# Altium footprint library My.PcbLib: 42 footprints (part 1 of 3)
Each footprint in its own frame and in the unit in brackets; x right, y up, seen from the top. Pads: shape width x height; smd on the part's side, far side on the other; paste and mask are expansions set on the pad; w line width, h text height; cw(c..) or ccw(c..) is an arc to the next point about the centre after c.
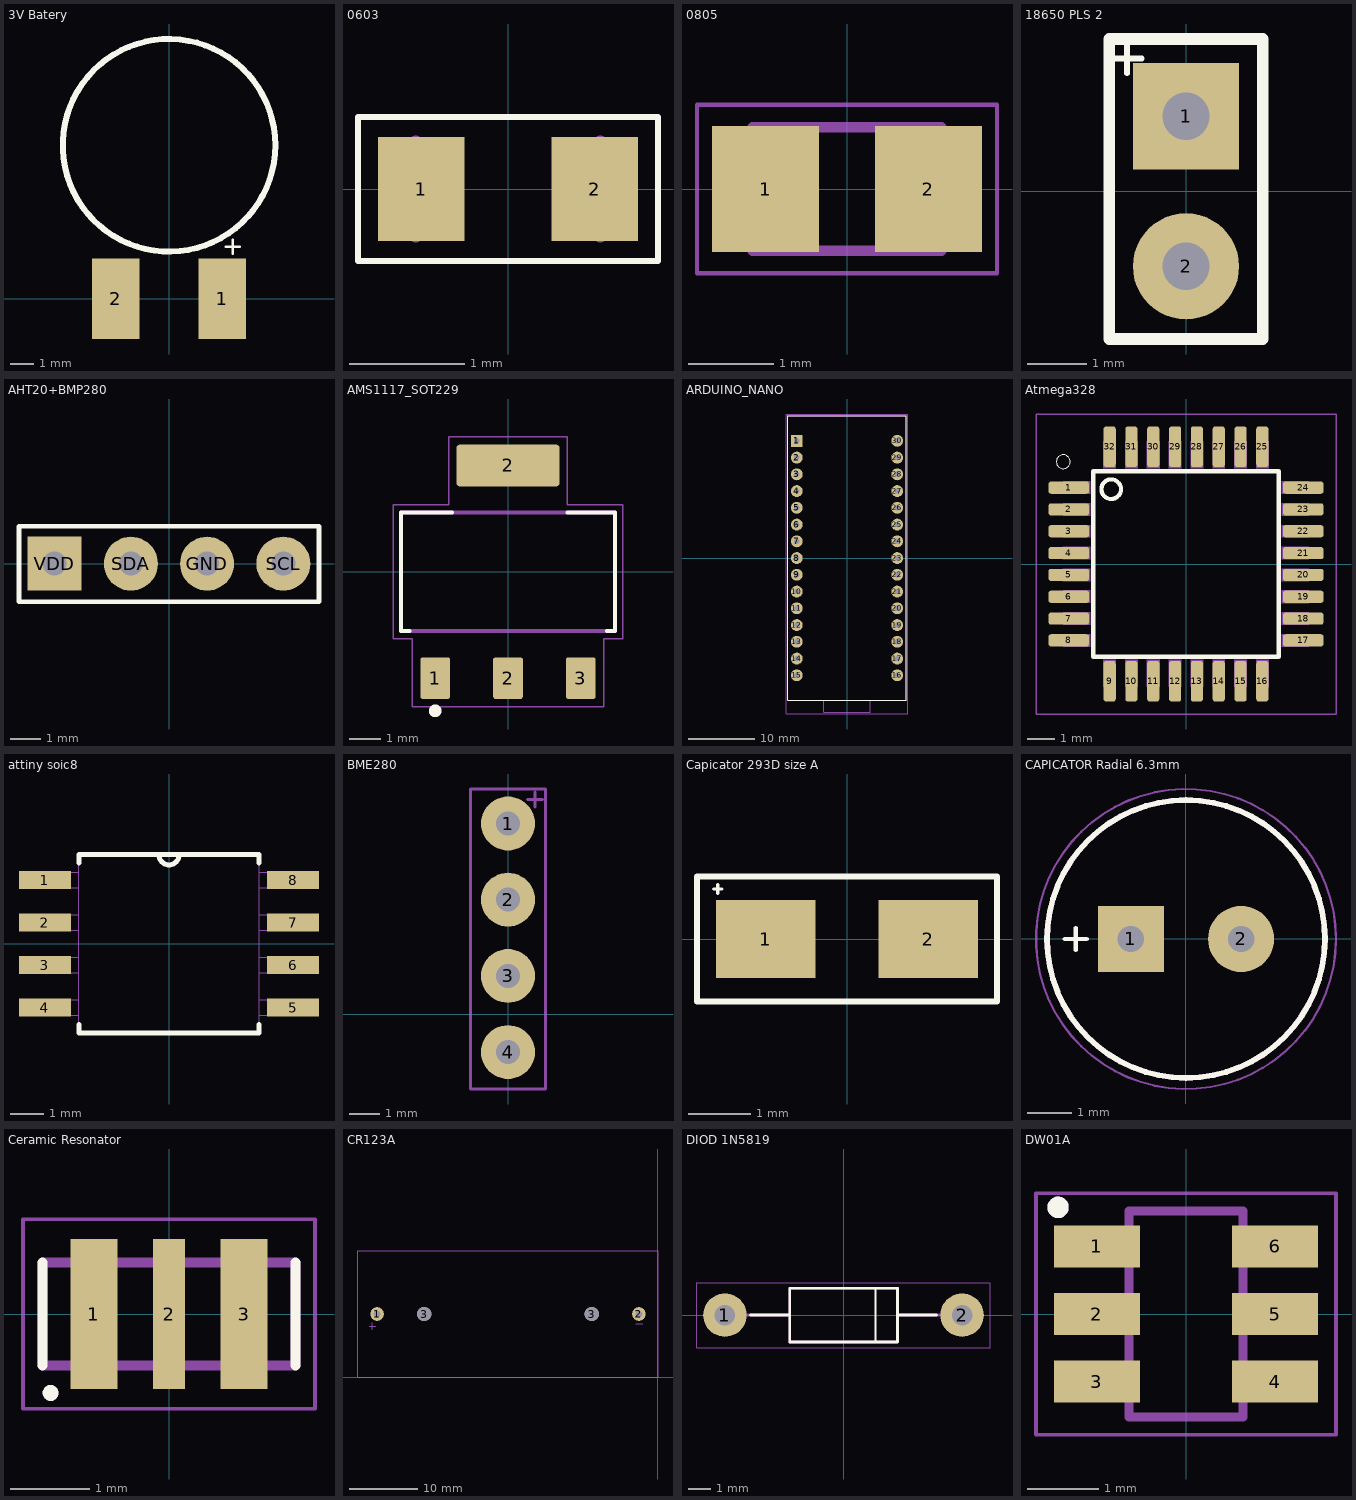
[diagram p0: the footprints below, top view; thin cyan lines are the x and y axes]

## 3V Batery [mm]
pads (2):
  rect 2x3.4 smd: 1(2.25,0) 2(-2.25,0)
Top Overlay:
  circle w0.254: c0,6.5 r4.5
  lines w0.1: 2.4,2.2 3,2.2 2.7,2.2 2.7,1.9 2.7,2.5
3D body: height 1.27, standoff 0, extent -4.488,2.002 4.512,11.002
3D body: height 0.1, standoff 0, extent -3.325,-1.75 -1.175,6.97
3D body: height 1.27, standoff 1.27, extent 1.175,-1.75 3.325,6.97

## 0603 [mm]
height 0.45
pads (2):
  rect 0.75x0.9 smd: 1(-0.75,0) 2(0.75,0)
Top Overlay:
  lines w0.05: -1.3,-0.625 -1.3,0.625 1.3,0.625 1.3,-0.625 -1.3,-0.625
Mechanical 13:
  lines w0.127: -0.8,-0.4 -0.8,0.4 ; 0.8,-0.4 0.8,0.4
3D body "step_temp.STEP": height 0.45, standoff 0, extent -0.8,-0.4 0.8,0.4

## 0805 [mm]
pads (2):
  rect 1.25x1.47 smd: 1(-0.95,0) 2(0.95,0)
Mechanical 13:
  lines w0.127: -1.1,-0.72 1.1,-0.72 1.1,0.72 -1.1,0.72 -1.1,-0.72
Top Courtyard (Mech15):
  lines w0.05: -1.75,-0.983 1.75,-0.983 1.75,0.983 -1.75,0.983 -1.75,-0.983
3D body "step_temp.STEP": height 0.94, standoff 0, extent -1.005,-0.625 1.005,0.625

## 18650 PLS 2 [mm]
pads (2):
  rect 1.8x1.8 hole 0.8: 1(0,1.27)
  round 1.8 hole 0.8: 2(0,-1.27)
Top Overlay:
  lines w0.1: -1.25,2.25 -0.75,2.25 ; -1,2 -1,2.5
  lines w0.2: -1.3,-2.5 1.3,-2.5 1.3,2.58 -1.3,2.58 -1.3,-2.5
3D body "PLS-2_(DS1021_CONNFLY).stp": height 8.7, standoff -3, extent -1.27,-2.54 1.27,2.54

## AHT20+BMP280 [mm]
pads (4):
  round 1.8 hole 0.8: GND(1.27,0) SCL(3.81,0) SDA(-1.27,0)
  rect 1.8x1.8 hole 0.8: VDD(-3.81,0)
Top Overlay:
  lines w0.152: -5,-1.27 -5,1.25 5,1.25 5,-1.27 -5,-1.27
3D body "PLS-2_(DS1021_CONNFLY).stp": height 8.7, standoff -3, extent -5.08,-1.27 0,1.27
3D body "PLS-2_(DS1021_CONNFLY).stp": height 8.7, standoff -3, extent 0,-1.27 5.08,1.27

## AMS1117_SOT229 [mm]
pads (4):
  rrect15% 0.93x1.31 smd: 1(-2.29,-3.345) 2(0,-3.345) 3(2.29,-3.345)
  rrect15% 3.24x1.31 smd: 2(0,3.345)
Top Overlay:
  circle w0.2: c-2.29,-4.373 r0.1
  lines w0.127: -3.1,-1.86 -3.36,-1.86 -3.36,1.86 -1.76,1.86 ; 1.87,1.86 3.36,1.86 3.36,-1.86 3.11,-1.86
Mechanical 13:
  lines w0.127: -3.36,-1.86 3.36,-1.86 3.36,1.86 -3.36,1.86 -3.36,-1.86
Top Courtyard (Mech15):
  lines w0.05: -3.61,-2.11 -3.01,-2.11 -3.01,-4.25 3.01,-4.25 3.01,-2.11 3.61,-2.11 3.61,2.11 1.87,2.11 1.87,4.25 -1.87,4.25 -1.87,2.11 -3.61,2.11 -3.61,-2.11
3D body "step_temp.STEP": height 1.8, standoff 0, extent -3.1,-3.625 3.2,3.375

## ARDUINO_NANO [mm]
pads (30):
  rect 1.8x1.8 hole 0.8: 1(-7.62,17.78)
  round 1.8 hole 0.8: 2(-7.62,15.24) 3(-7.62,12.7) 4(-7.62,10.16) 5(-7.62,7.62) 6(-7.62,5.08) 7(-7.62,2.54) 8(-7.62,0) 9(-7.62,-2.54) 10(-7.62,-5.08) 11(-7.62,-7.62) 12(-7.62,-10.16) 13(-7.62,-12.7) 14(-7.62,-15.24) 15(-7.62,-17.78) 16(7.62,-17.78) 17(7.62,-15.24) 18(7.62,-12.7) 19(7.62,-10.16) 20(7.62,-7.62) 21(7.62,-5.08) 22(7.62,-2.54) 23(7.62,0) 24(7.62,2.54) 25(7.62,5.08) 26(7.62,7.62) 27(7.62,10.16) 28(7.62,12.7) 29(7.62,15.24) 30(7.62,17.78)
Top Overlay:
  lines w0.127: -9,-21.6 -9,21.6 9,21.6 9,-21.6 -9,-21.6
Mechanical 13:
  lines w0.127: -3.5,-21.6 -3.5,-23.4 3.5,-23.4 3.5,-21.6 ; -3.5,-21.6 -9,-21.6 -9,21.6 9,21.6 9,-21.6 3.5,-21.6 ; -3.5,-21.6 3.5,-21.6
Top Courtyard (Mech15):
  lines w0.05: -9.25,-23.65 9.25,-23.65 9.25,21.85 -9.25,21.85 -9.25,-23.65
3D body "step_temp.STEP": height 12.6, standoff -6, extent -9,-23.4 9,21.6

## Atmega328 [mm]
pads (32):
  rrect50% 1.5x0.45 smd: 1(-4.3,2.8) 2(-4.3,2) 3(-4.3,1.2) 4(-4.3,0.4) 5(-4.3,-0.4) 6(-4.3,-1.2) 7(-4.3,-2) 8(-4.3,-2.8) 17(4.3,-2.8) 18(4.3,-2) 19(4.3,-1.2) 20(4.3,-0.4) 21(4.3,0.4) 22(4.3,1.2) 23(4.3,2) 24(4.3,2.8)
  rrect50% 0.45x1.5 smd: 9(-2.8,-4.3) 10(-2,-4.3) 11(-1.2,-4.3) 12(-0.4,-4.3) 13(0.4,-4.3) 14(1.2,-4.3) 15(2,-4.3) 16(2.8,-4.3) 26(2,4.3) 27(1.2,4.3) 28(0.4,4.3) 29(-0.4,4.3) 30(-1.2,4.3) 31(-2,4.3) 32(-2.8,4.3)
  rrect50% 0.45x1.5 smd mask+0.102: 25(2.8,4.3)
Top Overlay:
  circle w0: c-4.5,3.75 r0.254
  circle w0.152: c-2.743,2.743 r0.359
  lines w0.152: -3.4,-3.4 -3.4,3.4 3.4,3.4 3.4,-3.4 -3.4,-3.4
Mechanical 13:
  region: -2.571,3.511 -3.033,3.511 -3.033,4.497 -2.571,4.497
  region: -1.771,3.511 -2.232,3.511 -2.232,4.497 -1.771,4.497
  region: -0.971,3.512 -1.431,3.512 -1.431,4.497 -0.971,4.497
  region: -0.171,3.513 -0.63,3.513 -0.63,4.497 -0.171,4.497
  region: 0.629,3.509 0.172,3.509 0.172,4.497 0.629,4.497
  region: 1.429,3.515 0.974,3.515 0.974,4.497 1.429,4.497
  region: 2.229,3.516 1.777,3.516 1.777,4.497 2.229,4.497
  region: 3.029,3.512 2.576,3.512 2.576,4.497 3.029,4.497
  region: 4.497,2.578 3.515,2.578 3.515,3.029 4.497,3.029
  region: 4.497,1.772 3.508,1.772 3.508,2.229 4.497,2.229
  region: 4.497,0.975 3.517,0.975 3.517,1.429 4.497,1.429
  region: 4.497,0.172 3.51,0.172 3.51,0.629 4.497,0.629
  region: 4.497,-0.63 3.515,-0.63 3.515,-0.171 4.497,-0.171
  region: 4.497,-1.432 3.514,-1.432 3.514,-0.971 4.497,-0.971
  region: 4.497,-2.23 3.508,-2.23 3.508,-1.771 4.497,-1.771
  region: 4.497,-3.035 3.514,-3.035 3.514,-2.571 4.497,-2.571
  region: 3.029,-4.511 2.579,-4.511 2.579,-3.506 3.029,-3.506
  region: 2.229,-4.508 1.776,-4.508 1.776,-3.506 2.229,-3.506
  region: 1.429,-4.501 0.972,-4.501 0.972,-3.506 1.429,-3.506
  region: 0.629,-4.505 0.172,-4.505 0.172,-3.506 0.629,-3.506
  region: -0.171,-4.503 -0.629,-4.503 -0.629,-3.506 -0.171,-3.506
  region: -0.971,-4.505 -1.431,-4.505 -1.431,-3.506 -0.971,-3.506
  region: -1.771,-4.503 -2.232,-4.503 -2.232,-3.506 -1.771,-3.506
  region: -2.571,-4.509 -3.037,-4.509 -3.037,-3.506 -2.571,-3.506
  region: -3.506,-3.036 -4.507,-3.036 -4.507,-2.571 -3.506,-2.571
  region: -3.506,-2.234 -4.508,-2.234 -4.508,-1.771 -3.506,-1.771
  region: -3.506,-1.43 -4.501,-1.43 -4.501,-0.971 -3.506,-0.971
  region: -3.506,-0.631 -4.511,-0.631 -4.511,-0.171 -3.506,-0.171
  region: -3.506,0.172 -4.511,0.172 -4.511,0.629 -3.506,0.629
  region: -3.506,0.972 -4.5,0.972 -4.5,1.429 -3.506,1.429
  region: -3.506,1.775 -4.506,1.775 -4.506,2.229 -3.506,2.229
  region: -3.506,2.574 -4.501,2.574 -4.501,3.029 -3.506,3.029
Top Courtyard (Mech15):
  lines w0.05: -5.5,-5.5 -5.5,5.5 5.5,5.5 5.5,-5.5 -5.5,-5.5
3D body "step_temp.STEP": height 1.2, standoff 0, extent -4.5,-4.5 4.5,4.5

## attiny soic8 [mil]
pads (8):
  rect 61x21 smd: 1(-146,75) 2(-146,25) 3(-146,-25) 4(-146,-75) 5(146,-75) 6(146,-25) 7(146,25) 8(146,75)
Top Overlay:
  lines w6: -106,-95 -106,-105 106,-105 106,-95 ; -106,95 -106,105 -12,105 ; 106,95 106,105 12,105 ; -12,105 ccw(c0,105) 12,105 ; -12,105 ccw(c0,105) 12,105 ; -12,105 12,105
Mechanical 13:
  lines w0: -12,105 ccw(c0,105) 12,105 ; -12,105 ccw(c0,105) 12,105 ; -12,105 12,105 ; -12,105 -106,105 -106,-105 106,-105 106,105 12,105 ; -163,-84 -163,-66 -106,-66 -106,-84 -163,-84 ; -163,-34 -163,-16 -106,-16 -106,-34 -163,-34 ; -163,16 -163,34 -106,34 -106,16 -163,16 ; -163,66 -163,84 -106,84 -106,66 -163,66 ; 106,-84 106,-66 163,-66 163,-84 106,-84 ; 106,-34 106,-16 163,-16 163,-34 106,-34 ; 106,16 106,34 163,34 163,16 106,16 ; 106,66 106,84 163,84 163,66 106,66
3D body "step_temp.STEP": height 85.04, standoff 0, extent -157.09,-103.15 157.09,103.15

## BME280 [mm]
pads (4):
  round 1.8 hole 0.8: 1(0,6.35) 2(0,3.81) 3(0,1.27) 4(0,-1.27)
Top Courtyard:
  lines w0.1: 0.65,7.15 1.15,7.15 ; 0.9,6.9 0.9,7.4 ; -1.25,-2.5 -1.25,7.5 1.25,7.5 1.25,-2.5 -1.25,-2.5
3D body "PLS-2_(DS1021_CONNFLY).stp": height 8.7, standoff -3, extent -1.24,-2.54 1.3,2.54
3D body "PLS-2_(DS1021_CONNFLY).stp": height 8.7, standoff -3, extent -1.24,2.54 1.3,7.62

## Capicator 293D size A [mm]
pads (2):
  rect 1.6x1.25 smd: 1(-1.3,0) 2(1.3,0)
Top Overlay:
  lines w0.05: -2.138,0.8 -2,0.8 ; -2.069,0.731 -2.069,0.869
  lines w0.1: -2.4,-1 -2.4,1 2.4,1 2.4,-1 -2.4,-1
3D body "step_temp.STEP": height 1.8, standoff 0, extent -1.6,-0.8 1.6,0.8

## CAPICATOR Radial 6.3mm [mm]
pads (2):
  rect 1.5x1.5 hole 0.6: 1(-1.25,0)
  round 1.5 hole 0.6: 2(1.25,0)
Top Overlay:
  circle w0.127: c0,0 r3.15
  lines w0.1: -2.75,0 -2.25,0 ; -2.5,-0.25 -2.5,0.25
Mechanical 13:
  circle w0.127: c0,0 r3.15
Top Courtyard (Mech15):
  circle w0.05: c0,0 r3.4
3D body "step_temp.STEP": height 11.2, standoff -17, extent -3.15,-3.149 3.15,3.149

## Ceramic Resonator [mm]
pads (3):
  rect 0.6x1.9 smd: 1(-0.95,0) 3(0.95,0)
  rect 0.4x1.9 smd: 2(0,0)
Top Overlay:
  circle w0.1: c-1.5,-1 r0.05
  lines w0.127: -1.6,-0.65 -1.6,0.65 ; 1.6,-0.65 1.6,0.65
Mechanical 13:
  circle w0.1: c-1.5,-1 r0.05
  lines w0.127: -1.6,-0.65 1.6,-0.65 1.6,0.65 -1.6,0.65 -1.6,-0.65
Top Courtyard (Mech15):
  lines w0.05: -1.85,-1.2 1.85,-1.2 1.85,1.2 -1.85,1.2 -1.85,-1.2
3D body "step_temp.STEP": height 1, standoff 0, extent -1.6,-0.65 1.6,0.65

## CR123A [mm]
height 15.49
pads (4):
  round 2 hole 1: 1(-41.2,9.25) 2(-2.8,9.25)
  round 2.1 hole 2.1 unplated: 3(-34.3,9.25) 3(-9.7,9.25)
Top Courtyard:
  lines w0.127: -42.375,7.45 -41.375,7.45 ; -41.875,6.95 -41.875,7.95 ; -3.25,7.85 -2.25,7.85 ; 0,0 -44,0 -44,18.5 0,18.5 ; 0.005,0 0.005,18.5
3D body "step_temp.STEP": height 15.24, standoff -3.56, extent -43.613,0.175 -0.687,18.463

## DIOD 1N5819 [mm]
height 2.7
pads (2):
  round 1.9 hole 0.9 mask+0.102: 1(-5.18,0) 2(5.18,0)
Top Overlay:
  lines w0.1: 1.4,-1.1 1.4,1.1
  lines w0.127: -4.065,0 -2.35,0 ; 4.065,0 2.35,0 ; -2.35,0 -2.35,-1.175 2.35,-1.175 2.35,0 ; -2.35,0 -2.35,1.175 2.35,1.175 2.35,0
Mechanical 13:
  lines w0.127: -5.18,0 -2.35,0 ; 5.18,0 2.35,0 ; -2.35,0 -2.35,-1.175 2.35,-1.175 2.35,0 ; -2.35,0 -2.35,1.175 2.35,1.175 2.35,0
Top Courtyard (Mech15):
  lines w0.05: -6.4,-1.425 6.4,-1.425 6.4,1.425 -6.4,1.425 -6.4,-1.425

## DW01A [mm]
height 1.45
pads (6):
  rect 1.21x0.59 smd: 1(-1.255,0.95) 2(-1.255,0) 3(-1.255,-0.95) 4(1.255,-0.95) 5(1.255,0) 6(1.255,0.95)
Top Overlay:
  circle w0.2: c-1.8,1.5 r0.05
Mechanical 13:
  circle w0.2: c-1.8,1.5 r0.05
  lines w0.127: -0.8,-1.45 -0.8,1.45 0.8,1.45 0.8,-1.45 -0.8,-1.45
Top Courtyard (Mech15):
  lines w0.05: -2.11,-1.7 2.11,-1.7 2.11,1.7 -2.11,1.7 -2.11,-1.7
3D body "step_temp.STEP": height 1.45, standoff 0, extent -1.4,-1.45 1.4,1.45